# Altium schematic symbol library SL_Indicators.SchLib: 3 symbols
Pins are listed as number, name and electrical type; pins without a type are passive.

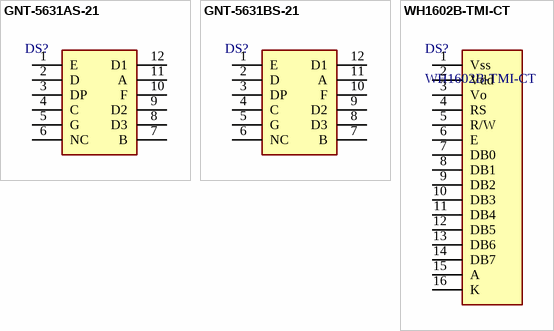
[diagram p0: symbols GNT-5631AS-21 to WH1602B-TMI-CT]

## GNT-5631AS-21
designator DS?, comment Common cathode  (value not drawn)
7 Segment 3 Digit indicator; Manufacturer_Name: G-NOR; Manufacturer_Part_Number: GNT-5631AS-21; Datasheet Link: https://www.rcscomponents.kiev.ua/datasheets/GNT-5631Ax-Bx.pdf?srsltid=AfmBOoq2gUTG2eZ9a5b95wAwMceyXhun4r2ipBTnG5PeBTtMWPAiRnhs; Height: 10mm; Arrow Part Number: GNT-5631AS-21
footprint DIPS1524W50P254L3760H810Q12N
pins: 1 E, 2 D, 3 DP, 4 C, 5 G, 6 NC, 7 B, 8 D3, 9 D2, 10 F, 11 A, 12 D1

## GNT-5631BS-21
designator DS?, comment Common anode  (value not drawn)
7 Segment 3 Digit indicator; Manufacturer_Name: G-NOR; Manufacturer_Part_Number: GNT-5631BS-21; Datasheet Link: https://www.rcscomponents.kiev.ua/datasheets/GNT-5631Ax-Bx.pdf?srsltid=AfmBOoq2gUTG2eZ9a5b95wAwMceyXhun4r2ipBTnG5PeBTtMWPAiRnhs; Height: 10mm; Arrow Part Number: GNT-5631BS-21
footprint DIPS1524W50P254L3760H810Q12N
pins: 1 E, 2 D, 3 DP, 4 C, 5 G, 6 NC, 7 B, 8 D3, 9 D2, 10 F, 11 A, 12 D1

## WH1602B-TMI-CT
designator DS?
LCD 16x02; Manufacturer_Name: WINSTAR; Datasheet Link: https://cdn.promelec.ru/upload/items/2020/01/10/WH1602B-TMI-CT_.pdf; Height: 10mm; Manufacturer_Part_Number: WH1602B-TMI-CT; Arrow Part Number: GNT-5631BS-21
footprint LCD-WH1602B
pins: 1 Vss, 2 Vdd, 3 Vo, 4 RS, 5 R/W, 6 E, 7 DB0, 8 DB1, 9 DB2, 10 DB3, 11 DB4, 12 DB5, 13 DB6, 14 DB7, 15 A, 16 K